# Altium integrated library TI Power Management PCMCIA and USB.IntLib: 328 symbols (part 1 of 14)
Pins are listed as number, name and electrical type; pins without a type are passive.

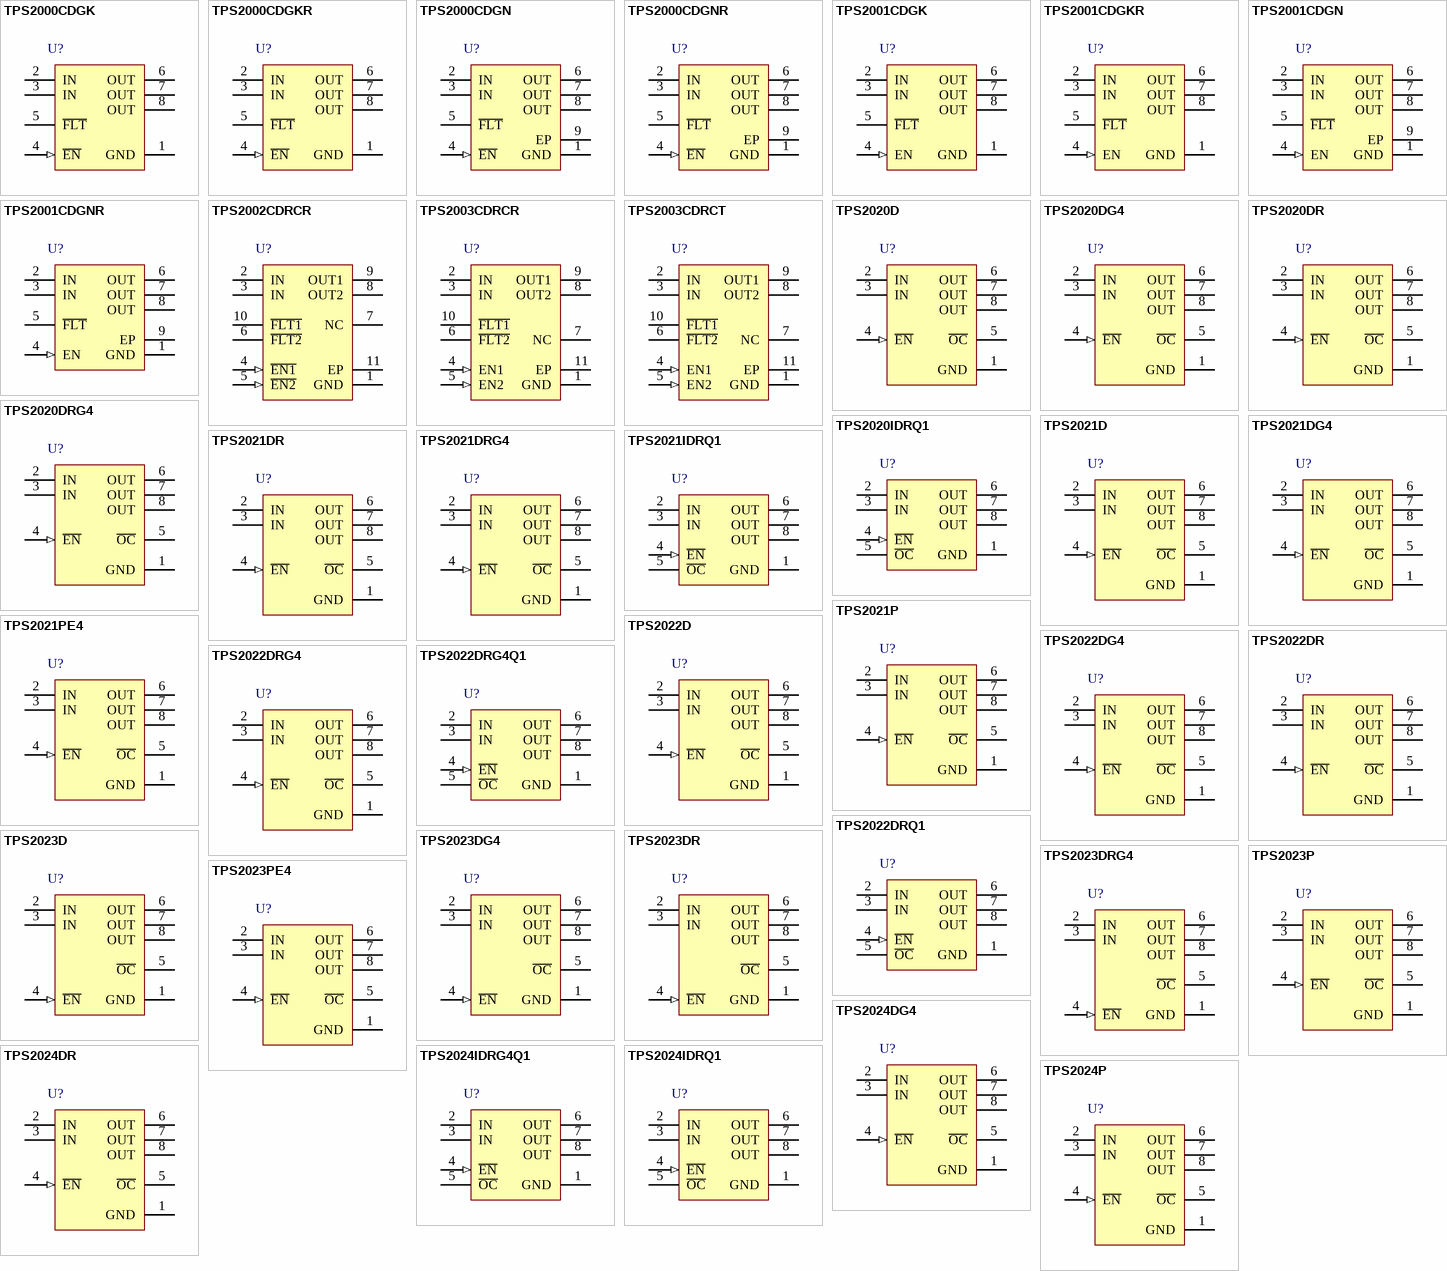
[diagram p0: symbols TPS2000CDGK to TPS2024P]

## TPS2000CDGK
designator U?
Single Channel, Current-Limited USB Power Distribution Switch, 2.9 A Current Limit, -40 to 85 degC, 8-pin VSSOP (DGK), Green (RoHS & no Sb/Br); Manufacturer: Texas Instruments; PartNumber: TPS2000CDGK; Continuous Current(Max)(A): 2; Current Limit(A): 2.9; Discharge Function: TRUE; Enable: Active Low; Number of Switches: 1; Rating: Catalog; rDS(on) per FET(Typ)(mOhms): 70; Vin(Max)(V): 5.5; Vin(Min)(V): 4.5; DatasheetVersion: SLVSAU6E; PackageVersion: revE, May-2006; PackageReference: DGK8; PackageDescription: 8-Pin Thin Small Outline Package 3 x 3 mm Body ,0.65 mm Pitch; Supplier 1: Digi-Key; Supplier Part Number 1: TPS2000CDGK-ND; Supplier 2: Newark; Supplier Part Number 2: 74T5500; Supplier 3: Mouser; Supplier Part Number 3: 595-TPS2000CDGK; Eco-Plan: Green (RoHS & no Sb/Br); UL Listed: TRUE; Mounting Technology: Surface Mount; Code_JEDEC: MO-187-AA; ComponentLink1Description: Datasheet; ComponentLink1URL: http://www.ti.com/general/docs/lit/getliterature.tsp?genericPartNumber=TPS2000C&fileType=pdf
footprint DGK8_N (TSOP, 8-Leads, Body 3x3mm, Pitch 0.65mm, IPC Medium Density)
footprint DGK8_L (TSOP, 8-Leads, Body 3x3mm, Pitch 0.65mm, IPC High Density)
footprint DGK8_M (TSOP, 8-Leads, Body 3x3mm, Pitch 0.65mm, IPC Low Density)
pins: 1 GND (power) "Ground connection", 2 IN (power) "Input voltage and power-switch drain; connect a 0.1 µF or greater ceramic capacitor from IN to GND close to the IC", 3 IN (power) "Input voltage and power-switch drain; connect a 0.1 µF or greater ceramic capacitor from IN to GND close to the IC", 4 ~{EN} (in) "Enable input, logic high turns on power switch", 5 ~{FLT} (hiz) "Active-low open-drain output, asserted during over-current, or over-temperature conditions", 6 OUT (power) "Power-switch output, connect to load", 7 OUT (power) "Power-switch output, connect to load", 8 OUT (power) "Power-switch output, connect to load"

## TPS2000CDGKR
designator U?
Single Channel, Current-Limited USB Power Distribution Switch, 2.9 A Current Limit, -40 to 85 degC, 8-pin VSSOP (DGK), Green (RoHS & no Sb/Br); Manufacturer: Texas Instruments; PartNumber: TPS2000CDGKR; Continuous Current(Max)(A): 2; Current Limit(A): 2.9; Discharge Function: TRUE; Enable: Active Low; Number of Switches: 1; Rating: Catalog; rDS(on) per FET(Typ)(mOhms): 70; Vin(Max)(V): 5.5; Vin(Min)(V): 4.5; DatasheetVersion: SLVSAU6E; PackageVersion: revE, May-2006; PackageReference: DGK8; PackageDescription: 8-Pin Thin Small Outline Package 3 x 3 mm Body ,0.65 mm Pitch; Supplier 1: Digi-Key; Supplier Part Number 1: 296-29958-2-ND; Supplier 2: Digi-Key; Supplier Part Number 2: 296-29958-1-ND; Supplier 3: Digi-Key; Supplier Part Number 3: 296-29958-6-ND; Supplier 4: Newark; Supplier Part Number 4: 74T5501; Supplier 5: Mouser; Supplier Part Number 5: 595-TPS2000CDGKR; Eco-Plan: Green (RoHS & no Sb/Br); UL Listed: TRUE; Mounting Technology: Surface Mount; Code_JEDEC: MO-187-AA; ComponentLink1Description: Datasheet; ComponentLink1URL: http://www.ti.com/general/docs/lit/getliterature.tsp?genericPartNumber=TPS2000C&fileType=pdf
footprint DGK8_N (TSOP, 8-Leads, Body 3x3mm, Pitch 0.65mm, IPC Medium Density)
footprint DGK8_L (TSOP, 8-Leads, Body 3x3mm, Pitch 0.65mm, IPC High Density)
footprint DGK8_M (TSOP, 8-Leads, Body 3x3mm, Pitch 0.65mm, IPC Low Density)
pins: 1 GND (power) "Ground connection", 2 IN (power) "Input voltage and power-switch drain; connect a 0.1 µF or greater ceramic capacitor from IN to GND close to the IC", 3 IN (power) "Input voltage and power-switch drain; connect a 0.1 µF or greater ceramic capacitor from IN to GND close to the IC", 4 ~{EN} (in) "Enable input, logic high turns on power switch", 5 ~{FLT} (hiz) "Active-low open-drain output, asserted during over-current, or over-temperature conditions", 6 OUT (power) "Power-switch output, connect to load", 7 OUT (power) "Power-switch output, connect to load", 8 OUT (power) "Power-switch output, connect to load"

## TPS2000CDGN
designator U?
Single Channel, Current-Limited USB Power Distribution Switch, 2.9 A Current Limit, -40 to 85 degC, 8-pin MSOP-PowerPAD (DGN), Green (RoHS & no Sb/Br); Manufacturer: Texas Instruments; PartNumber: TPS2000CDGN; Continuous Current(Max)(A): 2; Current Limit(A): 2.9; Discharge Function: TRUE; Enable: Active Low; Number of Switches: 1; Rating: Catalog; rDS(on) per FET(Typ)(mOhms): 70; Vin(Max)(V): 5.5; Vin(Min)(V): 4.5; DatasheetVersion: SLVSAU6E; PackageVersion: revF, May-2011; PackageReference: DGN8-1760X1425TP; PackageDescription: 8-Pin PowerPAD Plastic Small Outline Package 3 x 3 mm Body ,0.65 mm Pitch, Exposed Pad; Supplier 1: Digi-Key; Supplier Part Number 1: 296-29507-5-ND; Supplier 2: Farnell; Supplier Part Number 2: 2057436; Supplier 3: Newark; Supplier Part Number 3: 64T4198; Supplier 4: Mouser; Supplier Part Number 4: 595-TPS2000CDGN; Eco-Plan: Green (RoHS & no Sb/Br); UL Listed: TRUE; Mounting Technology: Surface Mount; Code_JEDEC: MO-187-AA-T; ComponentLink1Description: Datasheet; ComponentLink1URL: http://www.ti.com/general/docs/lit/getliterature.tsp?genericPartNumber=TPS2000C&fileType=pdf
footprint DGN8-1760X1425TP_N (TSOP, 8-Leads, Body 3x3mm, Pitch 0.65mm, Thermal Pad 1.89x1.57mm, IPC Medium Density)
footprint DGN8-1760X1425TP_L (TSOP, 8-Leads, Body 3x3mm, Pitch 0.65mm, Thermal Pad 1.89x1.57mm, IPC High Density)
footprint DGN8-1760X1425TP_M (TSOP, 8-Leads, Body 3x3mm, Pitch 0.65mm, Thermal Pad 1.89x1.57mm, IPC Low Density)
pins: 1 GND (power) "Ground connection", 2 IN (power) "Input voltage and power-switch drain; connect a 0.1 µF or greater ceramic capacitor from IN to GND close to the IC", 3 IN (power) "Input voltage and power-switch drain; connect a 0.1 µF or greater ceramic capacitor from IN to GND close to the IC", 4 ~{EN} (in) "Enable input, logic high turns on power switch", 5 ~{FLT} (hiz) "Active-low open-drain output, asserted during over-current, or over-temperature conditions", 6 OUT (power) "Power-switch output, connect to load", 7 OUT (power) "Power-switch output, connect to load", 8 OUT (power) "Power-switch output, connect to load", 9 EP (power) "Internally connected to GND. Connect PAD to GND plane as a heatsink for the best thermal performance.(DGN ONLY) PAD may be left floating if desired. See POWER DISSIPATION AND JUNCTION TEMPERATURE section for guidance."

## TPS2000CDGNR
designator U?
Single Channel, Current-Limited USB Power Distribution Switch, 2.9 A Current Limit, -40 to 85 degC, 8-pin MSOP-PowerPAD (DGN), Green (RoHS & no Sb/Br); Manufacturer: Texas Instruments; PartNumber: TPS2000CDGNR; Continuous Current(Max)(A): 2; Current Limit(A): 2.9; Discharge Function: TRUE; Enable: Active Low; Number of Switches: 1; Rating: Catalog; rDS(on) per FET(Typ)(mOhms): 70; Vin(Max)(V): 5.5; Vin(Min)(V): 4.5; DatasheetVersion: SLVSAU6E; PackageVersion: revF, May-2011; PackageReference: DGN8-1760X1425TP; PackageDescription: 8-Pin PowerPAD Plastic Small Outline Package 3 x 3 mm Body ,0.65 mm Pitch, Exposed Pad; Supplier 1: Digi-Key; Supplier Part Number 1: 296-29353-2-ND; Supplier 2: Digi-Key; Supplier Part Number 2: 296-29353-1-ND; Supplier 3: Digi-Key; Supplier Part Number 3: 296-29353-6-ND; Supplier 4: Mouser; Supplier Part Number 4: 595-TPS2000CDGNR; Eco-Plan: Green (RoHS & no Sb/Br); UL Listed: TRUE; Mounting Technology: Surface Mount; Code_JEDEC: MO-187-AA-T; ComponentLink1Description: Datasheet; ComponentLink1URL: http://www.ti.com/general/docs/lit/getliterature.tsp?genericPartNumber=TPS2000C&fileType=pdf
footprint DGN8-1760X1425TP_N (TSOP, 8-Leads, Body 3x3mm, Pitch 0.65mm, Thermal Pad 1.89x1.57mm, IPC Medium Density)
footprint DGN8-1760X1425TP_L (TSOP, 8-Leads, Body 3x3mm, Pitch 0.65mm, Thermal Pad 1.89x1.57mm, IPC High Density)
footprint DGN8-1760X1425TP_M (TSOP, 8-Leads, Body 3x3mm, Pitch 0.65mm, Thermal Pad 1.89x1.57mm, IPC Low Density)
pins: 1 GND (power) "Ground connection", 2 IN (power) "Input voltage and power-switch drain; connect a 0.1 µF or greater ceramic capacitor from IN to GND close to the IC", 3 IN (power) "Input voltage and power-switch drain; connect a 0.1 µF or greater ceramic capacitor from IN to GND close to the IC", 4 ~{EN} (in) "Enable input, logic high turns on power switch", 5 ~{FLT} (hiz) "Active-low open-drain output, asserted during over-current, or over-temperature conditions", 6 OUT (power) "Power-switch output, connect to load", 7 OUT (power) "Power-switch output, connect to load", 8 OUT (power) "Power-switch output, connect to load", 9 EP (power) "Internally connected to GND. Connect PAD to GND plane as a heatsink for the best thermal performance.(DGN ONLY) PAD may be left floating if desired. See POWER DISSIPATION AND JUNCTION TEMPERATURE section for guidance."

## TPS2001CDGK
designator U?
Single Channel, Current-Limited USB Power Distribution Switch, 2.9 A Current Limit, -40 to 85 degC, 8-pin VSSOP (DGK), Green (RoHS & no Sb/Br); Manufacturer: Texas Instruments; PartNumber: TPS2001CDGK; Continuous Current(Max)(A): 2; Current Limit(A): 2.9; Discharge Function: TRUE; Enable: Active High; Number of Switches: 1; Rating: Catalog; rDS(on) per FET(Typ)(mOhms): 70; Vin(Max)(V): 5.5; Vin(Min)(V): 4.5; DatasheetVersion: SLVSAU6E; PackageVersion: revE, May-2006; PackageReference: DGK8; PackageDescription: 8-Pin Thin Small Outline Package 3 x 3 mm Body ,0.65 mm Pitch; Supplier 1: Digi-Key; Supplier Part Number 1: TPS2001CDGK-ND; Supplier 2: Newark; Supplier Part Number 2: 74T5502; Supplier 3: Mouser; Supplier Part Number 3: 595-TPS2001CDGK; Eco-Plan: Green (RoHS & no Sb/Br); UL Listed: TRUE; Mounting Technology: Surface Mount; Code_JEDEC: MO-187-AA; ComponentLink1Description: Datasheet; ComponentLink1URL: http://www.ti.com/general/docs/lit/getliterature.tsp?genericPartNumber=TPS2001C&fileType=pdf
footprint DGK8_N (TSOP, 8-Leads, Body 3x3mm, Pitch 0.65mm, IPC Medium Density)
footprint DGK8_L (TSOP, 8-Leads, Body 3x3mm, Pitch 0.65mm, IPC High Density)
footprint DGK8_M (TSOP, 8-Leads, Body 3x3mm, Pitch 0.65mm, IPC Low Density)
pins: 1 GND (power) "Ground connection", 2 IN (power) "Input voltage and power-switch drain; connect a 0.1 µF or greater ceramic capacitor from IN to GND close to the IC", 3 IN (power) "Input voltage and power-switch drain; connect a 0.1 µF or greater ceramic capacitor from IN to GND close to the IC", 4 EN (in) "Enable input, logic high turns on power switch", 5 ~{FLT} (hiz) "Active-low open-drain output, asserted during over-current, or over-temperature conditions", 6 OUT (power) "Power-switch output, connect to load", 7 OUT (power) "Power-switch output, connect to load", 8 OUT (power) "Power-switch output, connect to load"

## TPS2001CDGKR
designator U?
Single Channel, Current-Limited USB Power Distribution Switch, 2.9 A Current Limit, -40 to 85 degC, 8-pin VSSOP (DGK), Green (RoHS & no Sb/Br); Manufacturer: Texas Instruments; PartNumber: TPS2001CDGKR; Continuous Current(Max)(A): 2; Current Limit(A): 2.9; Discharge Function: TRUE; Enable: Active High; Number of Switches: 1; Rating: Catalog; rDS(on) per FET(Typ)(mOhms): 70; Vin(Max)(V): 5.5; Vin(Min)(V): 4.5; DatasheetVersion: SLVSAU6E; PackageVersion: revE, May-2006; PackageReference: DGK8; PackageDescription: 8-Pin Thin Small Outline Package 3 x 3 mm Body ,0.65 mm Pitch; Supplier 1: Digi-Key; Supplier Part Number 1: 296-29959-2-ND; Supplier 2: Digi-Key; Supplier Part Number 2: 296-29959-1-ND; Supplier 3: Digi-Key; Supplier Part Number 3: 296-29959-6-ND; Supplier 4: Newark; Supplier Part Number 4: 74T5503; Supplier 5: Mouser; Supplier Part Number 5: 595-TPS2001CDGKR; Eco-Plan: Green (RoHS & no Sb/Br); UL Listed: TRUE; Mounting Technology: Surface Mount; Code_JEDEC: MO-187-AA; ComponentLink1Description: Datasheet; ComponentLink1URL: http://www.ti.com/general/docs/lit/getliterature.tsp?genericPartNumber=TPS2001C&fileType=pdf
footprint DGK8_N (TSOP, 8-Leads, Body 3x3mm, Pitch 0.65mm, IPC Medium Density)
footprint DGK8_L (TSOP, 8-Leads, Body 3x3mm, Pitch 0.65mm, IPC High Density)
footprint DGK8_M (TSOP, 8-Leads, Body 3x3mm, Pitch 0.65mm, IPC Low Density)
pins: 1 GND (power) "Ground connection", 2 IN (power) "Input voltage and power-switch drain; connect a 0.1 µF or greater ceramic capacitor from IN to GND close to the IC", 3 IN (power) "Input voltage and power-switch drain; connect a 0.1 µF or greater ceramic capacitor from IN to GND close to the IC", 4 EN (in) "Enable input, logic high turns on power switch", 5 ~{FLT} (hiz) "Active-low open-drain output, asserted during over-current, or over-temperature conditions", 6 OUT (power) "Power-switch output, connect to load", 7 OUT (power) "Power-switch output, connect to load", 8 OUT (power) "Power-switch output, connect to load"

## TPS2001CDGN
designator U?
Single Channel, Current-Limited USB Power Distribution Switch, 2.9 A Current Limit, -40 to 85 degC, 8-pin MSOP-PowerPAD (DGN), Green (RoHS & no Sb/Br); Manufacturer: Texas Instruments; PartNumber: TPS2001CDGN; Continuous Current(Max)(A): 2; Current Limit(A): 2.9; Discharge Function: TRUE; Enable: Active High; Number of Switches: 1; Rating: Catalog; rDS(on) per FET(Typ)(mOhms): 70; Vin(Max)(V): 5.5; Vin(Min)(V): 4.5; DatasheetVersion: SLVSAU6E; PackageVersion: revF, May-2011; PackageReference: DGN8-1760X1425TP; PackageDescription: 8-Pin PowerPAD Plastic Small Outline Package 3 x 3 mm Body ,0.65 mm Pitch, Exposed Pad; Supplier 1: Digi-Key; Supplier Part Number 1: 296-29336-5-ND; Supplier 2: Farnell; Supplier Part Number 2: 2057437; Supplier 3: Newark; Supplier Part Number 3: 64T4199; Supplier 4: Mouser; Supplier Part Number 4: 595-TPS2001CDGN; Eco-Plan: Green (RoHS & no Sb/Br); UL Listed: TRUE; Mounting Technology: Surface Mount; Code_JEDEC: MO-187-AA-T; ComponentLink1Description: Datasheet; ComponentLink1URL: http://www.ti.com/general/docs/lit/getliterature.tsp?genericPartNumber=TPS2001C&fileType=pdf
footprint DGN8-1760X1425TP_N (TSOP, 8-Leads, Body 3x3mm, Pitch 0.65mm, Thermal Pad 1.89x1.57mm, IPC Medium Density)
footprint DGN8-1760X1425TP_L (TSOP, 8-Leads, Body 3x3mm, Pitch 0.65mm, Thermal Pad 1.89x1.57mm, IPC High Density)
footprint DGN8-1760X1425TP_M (TSOP, 8-Leads, Body 3x3mm, Pitch 0.65mm, Thermal Pad 1.89x1.57mm, IPC Low Density)
pins: 1 GND (power) "Ground connection", 2 IN (power) "Input voltage and power-switch drain; connect a 0.1 µF or greater ceramic capacitor from IN to GND close to the IC", 3 IN (power) "Input voltage and power-switch drain; connect a 0.1 µF or greater ceramic capacitor from IN to GND close to the IC", 4 EN (in) "Enable input, logic high turns on power switch", 5 ~{FLT} (hiz) "Active-low open-drain output, asserted during over-current, or over-temperature conditions", 6 OUT (power) "Power-switch output, connect to load", 7 OUT (power) "Power-switch output, connect to load", 8 OUT (power) "Power-switch output, connect to load", 9 EP (power) "Internally connected to GND. Connect PAD to GND plane as a heatsink for the best thermal performance.(DGN ONLY) PAD may be left floating if desired. See POWER DISSIPATION AND JUNCTION TEMPERATURE section for guidance."

## TPS2001CDGNR
designator U?
Single Channel, Current-Limited USB Power Distribution Switch, 2.9 A Current Limit, -40 to 85 degC, 8-pin MSOP-PowerPAD (DGN), Green (RoHS & no Sb/Br); Manufacturer: Texas Instruments; PartNumber: TPS2001CDGNR; Continuous Current(Max)(A): 2; Current Limit(A): 2.9; Discharge Function: TRUE; Enable: Active High; Number of Switches: 1; Rating: Catalog; rDS(on) per FET(Typ)(mOhms): 70; Vin(Max)(V): 5.5; Vin(Min)(V): 4.5; DatasheetVersion: SLVSAU6E; PackageVersion: revF, May-2011; PackageReference: DGN8-1760X1425TP; PackageDescription: 8-Pin PowerPAD Plastic Small Outline Package 3 x 3 mm Body ,0.65 mm Pitch, Exposed Pad; Supplier 1: Digi-Key; Supplier Part Number 1: TPS2001CDGNR-ND; Supplier 2: Newark; Supplier Part Number 2: 61T6037; Supplier 3: Mouser; Supplier Part Number 3: 595-TPS2001CDGNR; Eco-Plan: Green (RoHS & no Sb/Br); UL Listed: TRUE; Mounting Technology: Surface Mount; Code_JEDEC: MO-187-AA-T; ComponentLink1Description: Datasheet; ComponentLink1URL: http://www.ti.com/general/docs/lit/getliterature.tsp?genericPartNumber=TPS2001C&fileType=pdf
footprint DGN8-1760X1425TP_N (TSOP, 8-Leads, Body 3x3mm, Pitch 0.65mm, Thermal Pad 1.89x1.57mm, IPC Medium Density)
footprint DGN8-1760X1425TP_L (TSOP, 8-Leads, Body 3x3mm, Pitch 0.65mm, Thermal Pad 1.89x1.57mm, IPC High Density)
footprint DGN8-1760X1425TP_M (TSOP, 8-Leads, Body 3x3mm, Pitch 0.65mm, Thermal Pad 1.89x1.57mm, IPC Low Density)
pins: 1 GND (power) "Ground connection", 2 IN (power) "Input voltage and power-switch drain; connect a 0.1 µF or greater ceramic capacitor from IN to GND close to the IC", 3 IN (power) "Input voltage and power-switch drain; connect a 0.1 µF or greater ceramic capacitor from IN to GND close to the IC", 4 EN (in) "Enable input, logic high turns on power switch", 5 ~{FLT} (hiz) "Active-low open-drain output, asserted during over-current, or over-temperature conditions", 6 OUT (power) "Power-switch output, connect to load", 7 OUT (power) "Power-switch output, connect to load", 8 OUT (power) "Power-switch output, connect to load", 9 EP (power) "Internally connected to GND. Connect PAD to GND plane as a heatsink for the best thermal performance.(DGN ONLY) PAD may be left floating if desired. See POWER DISSIPATION AND JUNCTION TEMPERATURE section for guidance."

## TPS2002CDRCR
designator U?
Dual-Channel, Current-Limited, Power-Distribution Switch, 2.22 to 3.70 A Current Limit, -40 to 85 degC, 10-pin SON (DRC), Green (RoHS & no Sb/Br); Manufacturer: Texas Instruments; PartNumber: TPS2002CDRCR; Continuous Current(Max)(A): 2; Current Limit Accuracy @ 1A: +/- 25%; Current Limit Topology: Constant-Current; Enable: Active Low; Rating: Catalog; rDS(on) per FET(Typ)(mOhms): 70; Vin(Max)(V): 5.5; Vin(Min)(V): 4.5; DatasheetVersion: SLVSAX6E; PackageVersion: revL, Sep-2011; PackageReference: DRC10-2400X1650TP; PackageDescription: 10-Pin Plastic Small Outline No-Lead, 3 x 3 x 1 mm Body, 0.5 mm Pitch, Exposed Pad; Supplier 1: Mouser; Supplier Part Number 1: N/A; Current Limit(A): 2.22 to 3.70; Eco-Plan: Green (RoHS & no Sb/Br); Number of Switches: 2; Mounting Technology: Surface Mount; ComponentLink1Description: Datasheet; ComponentLink1URL: http://www.ti.com/general/docs/lit/getliterature.tsp?genericPartNumber=TPS2002C&fileType=pdf
footprint DRC10-2400X1650TP (SON, 10-Leads, Body 3x3mm, Pitch 0.5mm, Thermal Pad 2.4x1.65mm, TI Recommended)
pins: 1 GND (power) "Ground connection", 2 IN (power) "Input voltage and power-switch drain; connect a 0.1 uF or greater ceramic capacitor from IN to GND close to the IC", 3 IN (power) "Input voltage and power-switch drain; connect a 0.1 uF or greater ceramic capacitor from IN to GND close to the IC", 4 ~{EN1} (in) "Enable input channel 1, logic low turns on power switch", 5 ~{EN2} (in) "Enable input channel 2, logic low turns on power switch", 6 ~{FLT2} (hiz) "Active-low open-drain output, asserted during overcurrent, or overtemperature conditions on channel 2", 7 NC "No connect - leave floating.", 8 OUT2 (power) "Power-switch output channel 2, connect to load", 9 OUT1 (power) "Power-switch output channel 1, connect to load", 10 ~{FLT1} (hiz) "Active-low open-drain output, asserted during overcurrent, or overtemperature conditions on channel 1", 11 EP (power) "Internally connected to GND; used to heat-sink the part to the circuit board traces. Connect PAD to GND plane as a heatsink."

## TPS2003CDRCR
designator U?
Dual-Channel, Current-Limited, Power-Distribution Switch, 2.22 to 3.70 A Current Limit, -40 to 85 degC, 10-pin SON (DRC), Green (RoHS & no Sb/Br); Manufacturer: Texas Instruments; PartNumber: TPS2003CDRCR; Continuous Current(Max)(A): 2; Current Limit Accuracy @ 1A: +/- 25%; Current Limit Topology: Constant-Current; Enable: Active High; Rating: Catalog; rDS(on) per FET(Typ)(mOhms): 70; Vin(Max)(V): 5.5; Vin(Min)(V): 4.5; DatasheetVersion: SLVSAX6E; PackageVersion: revL, Sep-2011; PackageReference: DRC10-2400X1650TP; PackageDescription: 10-Pin Plastic Small Outline No-Lead, 3 x 3 x 1 mm Body, 0.5 mm Pitch, Exposed Pad; Supplier 1: Mouser; Supplier Part Number 1: N/A; Current Limit(A): 2.22 to 3.70; Eco-Plan: Green (RoHS & no Sb/Br); Number of Switches: 2; Mounting Technology: Surface Mount; ComponentLink1Description: Datasheet; ComponentLink1URL: http://www.ti.com/general/docs/lit/getliterature.tsp?genericPartNumber=TPS2003C&fileType=pdf
footprint DRC10-2400X1650TP (SON, 10-Leads, Body 3x3mm, Pitch 0.5mm, Thermal Pad 2.4x1.65mm, TI Recommended)
pins: 1 GND (power) "Ground connection", 2 IN (power) "Input voltage and power-switch drain; connect a 0.1 uF or greater ceramic capacitor from IN to GND close to the IC", 3 IN (power) "Input voltage and power-switch drain; connect a 0.1 uF or greater ceramic capacitor from IN to GND close to the IC", 4 EN1 (in) "Enable input channel 1, logic high turns on power switch", 5 EN2 (in) "Enable input channel 2, logic high turns on power switch", 6 ~{FLT2} (hiz) "Active-low open-drain output, asserted during overcurrent, or overtemperature conditions on channel 2", 7 NC "No connect - leave floating.", 8 OUT2 (power) "Power-switch output channel 2, connect to load", 9 OUT1 (power) "Power-switch output channel 1, connect to load", 10 ~{FLT1} (hiz) "Active-low open-drain output, asserted during overcurrent, or overtemperature conditions on channel 1", 11 EP (power) "Internally connected to GND; used to heat-sink the part to the circuit board traces. Connect PAD to GND plane as a heatsink."

## TPS2003CDRCT
designator U?
Dual-Channel, Current-Limited, Power-Distribution Switch, 2.22 to 3.70 A Current Limit, -40 to 85 degC, 10-pin SON (DRC), Green (RoHS & no Sb/Br); Manufacturer: Texas Instruments; PartNumber: TPS2003CDRCT; Continuous Current(Max)(A): 2; Current Limit Accuracy @ 1A: +/- 25%; Current Limit Topology: Constant-Current; Enable: Active High; Rating: Catalog; rDS(on) per FET(Typ)(mOhms): 70; Vin(Max)(V): 5.5; Vin(Min)(V): 4.5; DatasheetVersion: SLVSAX6E; PackageVersion: revL, Sep-2011; PackageReference: DRC10-2400X1650TP; PackageDescription: 10-Pin Plastic Small Outline No-Lead, 3 x 3 x 1 mm Body, 0.5 mm Pitch, Exposed Pad; Supplier 1: Mouser; Supplier Part Number 1: N/A; Current Limit(A): 2.22 to 3.70; Eco-Plan: Green (RoHS & no Sb/Br); Number of Switches: 2; Mounting Technology: Surface Mount; ComponentLink1Description: Datasheet; ComponentLink1URL: http://www.ti.com/general/docs/lit/getliterature.tsp?genericPartNumber=TPS2003C&fileType=pdf
footprint DRC10-2400X1650TP (SON, 10-Leads, Body 3x3mm, Pitch 0.5mm, Thermal Pad 2.4x1.65mm, TI Recommended)
pins: 1 GND (power) "Ground connection", 2 IN (power) "Input voltage and power-switch drain; connect a 0.1 uF or greater ceramic capacitor from IN to GND close to the IC", 3 IN (power) "Input voltage and power-switch drain; connect a 0.1 uF or greater ceramic capacitor from IN to GND close to the IC", 4 EN1 (in) "Enable input channel 1, logic high turns on power switch", 5 EN2 (in) "Enable input channel 2, logic high turns on power switch", 6 ~{FLT2} (hiz) "Active-low open-drain output, asserted during overcurrent, or overtemperature conditions on channel 2", 7 NC "No connect - leave floating.", 8 OUT2 (power) "Power-switch output channel 2, connect to load", 9 OUT1 (power) "Power-switch output channel 1, connect to load", 10 ~{FLT1} (hiz) "Active-low open-drain output, asserted during overcurrent, or overtemperature conditions on channel 1", 11 EP (power) "Internally connected to GND; used to heat-sink the part to the circuit board traces. Connect PAD to GND plane as a heatsink."

## TPS2020D
designator U?
0.22 A, 2.7 to 5.5 V Single Power Distribution Switch IC Hi-Side MOSFET, Fault Report, 33 mOhms rDS(ON), -40 to 85 degC, 8-pin SOIC (D), Green (RoHS & no Sb/Br); Manufacturer: Texas Instruments; PartNumber: TPS2020D; Continuous Current(Max)(A): 0.2; Current Limit(A): 0.3; Enable: Active Low; Number of Switches: 1; Rating: Catalog; rDS(on) per FET(Typ)(mOhms): 33; Vin(Max)(V): 5.5; Vin(Min)(V): 2.7; DatasheetVersion: SLVS175C; PackageVersion: revM, Jun-2011; PackageReference: D8; PackageDescription: 8-Pin Plastic Small Outline Integrated Circuit, 4.9 x 3.9 mm, Pitch 1.27 mm Pitch; Supplier 1: Digi-Key; Supplier Part Number 1: 296-2560-5-ND; Supplier 2: Farnell; Supplier Part Number 2: 8456690; Supplier 3: Newark; Supplier Part Number 3: 35K1303; Supplier 4: Mouser; Supplier Part Number 4: 595-TPS2020D; Eco-Plan: Green (RoHS & no Sb/Br); Mounting Technology: Surface Mount; Code_JEDEC: MS-012AA; ComponentLink1Description: Datasheet; ComponentLink1URL: http://www.ti.com/general/docs/lit/getliterature.tsp?genericPartNumber=TPS2020&fileType=pdf
footprint D8_N (SOIC, 8-Leads, Body 4.9x3.9mm, Pitch 1.27mm, IPC Medium Density)
footprint D8_L (SOIC, 8-Leads, Body 4.9x3.9mm, Pitch 1.27mm, IPC High Density)
footprint D8_M (SOIC, 8-Leads, Body 4.9x3.9mm, Pitch 1.27mm, IPC Low Density)
pins: 1 GND (power) "Ground", 2 IN (power) "Input voltage", 3 IN (power) "Input voltage", 4 ~{EN} (in) "Enable input. Logic-low turns on power switch.", 5 ~{OC} (oc) "Overcurrent. Logic output, active-low", 6 OUT (power) "Power-switch output", 7 OUT (power) "Power-switch output", 8 OUT (power) "Power-switch output"

## TPS2020DG4
designator U?
0.22 A, 2.7 to 5.5 V Single Power Distribution Switch IC Hi-Side MOSFET, Fault Report, 33 mOhms rDS(ON), -40 to 85 degC, 8-pin SOIC (D), Green (RoHS & no Sb/Br); Manufacturer: Texas Instruments; PartNumber: TPS2020DG4; Continuous Current(Max)(A): 0.2; Current Limit(A): 0.3; Enable: Active Low; Number of Switches: 1; Rating: Catalog; rDS(on) per FET(Typ)(mOhms): 33; Vin(Max)(V): 5.5; Vin(Min)(V): 2.7; DatasheetVersion: SLVS175C; PackageVersion: revM, Jun-2011; PackageReference: D8; PackageDescription: 8-Pin Plastic Small Outline Integrated Circuit, 4.9 x 3.9 mm, Pitch 1.27 mm Pitch; Supplier 1: Digi-Key; Supplier Part Number 1: TPS2020DG4-ND; Supplier 2: Newark; Supplier Part Number 2: 70K5693; Supplier 3: Mouser; Supplier Part Number 3: 595-TPS2020DG4; Eco-Plan: Green (RoHS & no Sb/Br); Mounting Technology: Surface Mount; Code_JEDEC: MS-012AA; ComponentLink1Description: Datasheet; ComponentLink1URL: http://www.ti.com/general/docs/lit/getliterature.tsp?genericPartNumber=TPS2020&fileType=pdf
footprint D8_N (SOIC, 8-Leads, Body 4.9x3.9mm, Pitch 1.27mm, IPC Medium Density)
footprint D8_L (SOIC, 8-Leads, Body 4.9x3.9mm, Pitch 1.27mm, IPC High Density)
footprint D8_M (SOIC, 8-Leads, Body 4.9x3.9mm, Pitch 1.27mm, IPC Low Density)
pins: 1 GND (power) "Ground", 2 IN (power) "Input voltage", 3 IN (power) "Input voltage", 4 ~{EN} (in) "Enable input. Logic-low turns on power switch.", 5 ~{OC} (oc) "Overcurrent. Logic output, active-low", 6 OUT (power) "Power-switch output", 7 OUT (power) "Power-switch output", 8 OUT (power) "Power-switch output"

## TPS2020DR
designator U?
0.22 A, 2.7 to 5.5 V Single Power Distribution Switch IC Hi-Side MOSFET, Fault Report, 33 mOhms rDS(On), -40 to 85 degC, 8-pin SOIC (D), Green (RoHS & no Sb/Br); Manufacturer: Texas Instruments; PartNumber: TPS2020DR; Continuous Current(Max)(A): 0.2; Current Limit(A): 0.3; Enable: Active Low; Number of Switches: 1; Rating: Catalog; rDS(on) per FET(Typ)(mOhms): 33; Vin(Max)(V): 5.5; Vin(Min)(V): 2.7; DatasheetVersion: SLVS175C; PackageVersion: revM, Jun-2011; PackageReference: D8; PackageDescription: 8-Pin Plastic Small Outline Integrated Circuit, 4.9 x 3.9 mm, Pitch 1.27 mm Pitch; Supplier 1: Digi-Key; Supplier Part Number 1: TPS2020DR-ND; Supplier 2: Newark; Supplier Part Number 2: 76C9959; Supplier 3: Mouser; Supplier Part Number 3: 595-TPS2020DR; Eco-Plan: Green (RoHS & no Sb/Br); Mounting Technology: Surface Mount; Code_JEDEC: MS-012AA; ComponentLink1Description: Datasheet; ComponentLink1URL: http://www.ti.com/general/docs/lit/getliterature.tsp?genericPartNumber=TPS2020&fileType=pdf
footprint D8_N (SOIC, 8-Leads, Body 4.9x3.9mm, Pitch 1.27mm, IPC Medium Density)
footprint D8_L (SOIC, 8-Leads, Body 4.9x3.9mm, Pitch 1.27mm, IPC High Density)
footprint D8_M (SOIC, 8-Leads, Body 4.9x3.9mm, Pitch 1.27mm, IPC Low Density)
pins: 1 GND (power) "Ground", 2 IN (power) "Input voltage", 3 IN (power) "Input voltage", 4 ~{EN} (in) "Enable input. Logic-low turns on power switch.", 5 ~{OC} (oc) "Overcurrent. Logic output, active-low", 6 OUT (power) "Power-switch output", 7 OUT (power) "Power-switch output", 8 OUT (power) "Power-switch output"

## TPS2020DRG4
designator U?
0.22 A, 2.7 to 5.5 V Single Power Distribution Switch IC Hi-Side MOSFET, Fault Report, 33 mOhms rDS(On), -40 to 85 degC, 8-pin SOIC (D), Green (RoHS & no Sb/Br); Manufacturer: Texas Instruments; PartNumber: TPS2020DRG4; Continuous Current(Max)(A): 0.2; Current Limit(A): 0.3; Enable: Active Low; Number of Switches: 1; Rating: Catalog; rDS(on) per FET(Typ)(mOhms): 33; Vin(Max)(V): 5.5; Vin(Min)(V): 2.7; DatasheetVersion: SLVS175C; PackageVersion: revM, Jun-2011; PackageReference: D8; PackageDescription: 8-Pin Plastic Small Outline Integrated Circuit, 4.9 x 3.9 mm, Pitch 1.27 mm Pitch; Supplier 1: Digi-Key; Supplier Part Number 1: TPS2020DRG4-ND; Supplier 2: Newark; Supplier Part Number 2: 31K7806; Supplier 3: Mouser; Supplier Part Number 3: 595-TPS2020DRG4; Eco-Plan: Green (RoHS & no Sb/Br); Mounting Technology: Surface Mount; Code_JEDEC: MS-012AA; ComponentLink1Description: Datasheet; ComponentLink1URL: http://www.ti.com/general/docs/lit/getliterature.tsp?genericPartNumber=TPS2020&fileType=pdf
footprint D8_N (SOIC, 8-Leads, Body 4.9x3.9mm, Pitch 1.27mm, IPC Medium Density)
footprint D8_L (SOIC, 8-Leads, Body 4.9x3.9mm, Pitch 1.27mm, IPC High Density)
footprint D8_M (SOIC, 8-Leads, Body 4.9x3.9mm, Pitch 1.27mm, IPC Low Density)
pins: 1 GND (power) "Ground", 2 IN (power) "Input voltage", 3 IN (power) "Input voltage", 4 ~{EN} (in) "Enable input. Logic-low turns on power switch.", 5 ~{OC} (oc) "Overcurrent. Logic output, active-low", 6 OUT (power) "Power-switch output", 7 OUT (power) "Power-switch output", 8 OUT (power) "Power-switch output"

## TPS2020IDRQ1
designator U?
Automotive Catalog 0.22A, 2.7 to 5.5 V Single Power Distribution Switch IC Hi-Side MOSFET, Fault Report,, A Current Limit, -40 to 85 degC, 8-pin SOIC (D), Green (RoHS & no Sb/Br); Manufacturer: Texas Instruments; PartNumber: TPS2020IDRQ1; Continuous Current(Max)(A): 0.2; Current Limit Accuracy @ 1A: 0.3; Enable: Active Low; Number of Switches: 1; Vin(Max)(V): 5.5; Vin(Min)(V): 2.7; DatasheetVersion: SGLS260G; PackageVersion: revM, Jun-2011; PackageReference: D8; PackageDescription: 8-Pin Plastic Small Outline Integrated Circuit, 4.9 x 3.9 mm, Pitch 1.27 mm Pitch; Supplier 1: Digi-Key; Supplier Part Number 1: TPS2020IDRQ1-ND; Supplier 2: Newark; Supplier Part Number 2: 01T0801; Supplier 3: Mouser; Supplier Part Number 3: 595-TPS2020IDRQ1; Eco-Plan: Green (RoHS & no Sb/Br); Rating: Automotive; Mounting Technology: Surface Mount; Code_JEDEC: MS-012AA; ComponentLink1Description: Datasheet; ComponentLink1URL: http://www.ti.com/general/docs/lit/getliterature.tsp?genericPartNumber=TPS2020-Q1&fileType=pdf
footprint D8_N (SOIC, 8-Leads, Body 4.9x3.9mm, Pitch 1.27mm, IPC Medium Density)
footprint D8_L (SOIC, 8-Leads, Body 4.9x3.9mm, Pitch 1.27mm, IPC High Density)
footprint D8_M (SOIC, 8-Leads, Body 4.9x3.9mm, Pitch 1.27mm, IPC Low Density)
pins: 1 GND (power) "Ground", 2 IN (power) "Input voltage", 3 IN (power) "Input voltage", 4 ~{EN} (in) "Enable input. Logic-low turns on power switch", 5 ~{OC} (oc) "Overcurrent. Logic output, active-low", 6 OUT (power) "Power-switch output", 7 OUT (power) "Power-switch output", 8 OUT (power) "Power-switch output"

## TPS2021D
designator U?
0.66 A, 2.7 to 5.5 V Single Power Distribution Switch IC Hi-Side MOSFET, Fault Report, 33 mOhms rDS(On), -40 to 85 degC, 8-pin SOIC (D), Green (RoHS & no Sb/Br); Manufacturer: Texas Instruments; PartNumber: TPS2021D; Continuous Current(Max)(A): 0.6; Current Limit(A): 0.9; Enable: Active Low; Number of Switches: 1; Rating: Catalog; rDS(on) per FET(Typ)(mOhms): 33; Vin(Max)(V): 5.5; Vin(Min)(V): 2.7; DatasheetVersion: SLVS175C; PackageVersion: revM, Jun-2011; PackageReference: D8; PackageDescription: 8-Pin Plastic Small Outline Integrated Circuit, 4.9 x 3.9 mm, Pitch 1.27 mm Pitch; Supplier 1: Digi-Key; Supplier Part Number 1: 296-2561-5-ND; Supplier 2: Newark; Supplier Part Number 2: 96B3628; Supplier 3: Mouser; Supplier Part Number 3: 595-TPS2021D; Eco-Plan: Green (RoHS & no Sb/Br); Mounting Technology: Surface Mount; Code_JEDEC: MS-012AA; ComponentLink1Description: Datasheet; ComponentLink1URL: http://www.ti.com/general/docs/lit/getliterature.tsp?genericPartNumber=TPS2021&fileType=pdf
footprint D8_N (SOIC, 8-Leads, Body 4.9x3.9mm, Pitch 1.27mm, IPC Medium Density)
footprint D8_L (SOIC, 8-Leads, Body 4.9x3.9mm, Pitch 1.27mm, IPC High Density)
footprint D8_M (SOIC, 8-Leads, Body 4.9x3.9mm, Pitch 1.27mm, IPC Low Density)
pins: 1 GND (power) "Ground", 2 IN (power) "Input voltage", 3 IN (power) "Input voltage", 4 ~{EN} (in) "Enable input. Logic-low turns on power switch.", 5 ~{OC} (oc) "Overcurrent. Logic output, active low", 6 OUT (power) "Power-switch output", 7 OUT (power) "Power-switch output", 8 OUT (power) "Power-switch output"

## TPS2021DG4
designator U?
0.66 A, 2.7 to 5.5 V Single Power Distribution Switch IC Hi-Side MOSFET, Fault Report, 33 mOhms rDS(On), -40 to 85 degC, 8-pin SOIC (D), Green (RoHS & no Sb/Br); Manufacturer: Texas Instruments; PartNumber: TPS2021DG4; Continuous Current(Max)(A): 0.6; Current Limit(A): 0.9; Enable: Active Low; Number of Switches: 1; Rating: Catalog; rDS(on) per FET(Typ)(mOhms): 33; Vin(Max)(V): 5.5; Vin(Min)(V): 2.7; DatasheetVersion: SLVS175C; PackageVersion: revM, Jun-2011; PackageReference: D8; PackageDescription: 8-Pin Plastic Small Outline Integrated Circuit, 4.9 x 3.9 mm, Pitch 1.27 mm Pitch; Supplier 1: Digi-Key; Supplier Part Number 1: TPS2021DG4-ND; Supplier 2: Newark; Supplier Part Number 2: 54K1528; Supplier 3: Mouser; Supplier Part Number 3: 595-TPS2021DG4; Eco-Plan: Green (RoHS & no Sb/Br); Mounting Technology: Surface Mount; Code_JEDEC: MS-012AA; ComponentLink1Description: Datasheet; ComponentLink1URL: http://www.ti.com/general/docs/lit/getliterature.tsp?genericPartNumber=TPS2021&fileType=pdf
footprint D8_N (SOIC, 8-Leads, Body 4.9x3.9mm, Pitch 1.27mm, IPC Medium Density)
footprint D8_L (SOIC, 8-Leads, Body 4.9x3.9mm, Pitch 1.27mm, IPC High Density)
footprint D8_M (SOIC, 8-Leads, Body 4.9x3.9mm, Pitch 1.27mm, IPC Low Density)
pins: 1 GND (power) "Ground", 2 IN (power) "Input voltage", 3 IN (power) "Input voltage", 4 ~{EN} (in) "Enable input. Logic-low turns on power switch.", 5 ~{OC} (oc) "Overcurrent. Logic output, active low", 6 OUT (power) "Power-switch output", 7 OUT (power) "Power-switch output", 8 OUT (power) "Power-switch output"

## TPS2021DR
designator U?
0.66 A, 2.7 to 5.5 V Single Power Distribution Switch IC Hi-Side MOSFET, Fault Report, 33 mOhms rDS(on), -40 to 85 degC, 8-pin SOIC (D), Green (RoHS & no Sb/Br); Manufacturer: Texas Instruments; PartNumber: TPS2021DR; Continuous Current(Max)(A): 0.6; Current Limit(A): 0.9; Enable: Active Low; Number of Switches: 1; Rating: Catalog; rDS(on) per FET(Typ)(mOhms): 33; Vin(Max)(V): 5.5; Vin(Min)(V): 2.7; DatasheetVersion: SLVS175C; PackageVersion: revM, Jun-2011; PackageReference: D8; PackageDescription: 8-Pin Plastic Small Outline Integrated Circuit, 4.9 x 3.9 mm, Pitch 1.27 mm Pitch; Supplier 1: Digi-Key; Supplier Part Number 1: 296-26903-2-ND; Supplier 2: Digi-Key; Supplier Part Number 2: 296-26903-1-ND; Supplier 3: Digi-Key; Supplier Part Number 3: 296-26903-6-ND; Supplier 4: Newark; Supplier Part Number 4: 76C9960; Supplier 5: Mouser; Supplier Part Number 5: 595-TPS2021DR; Eco-Plan: Green (RoHS & no Sb/Br); Mounting Technology: Surface Mount; Code_JEDEC: MS-012AA; ComponentLink1Description: Datasheet; ComponentLink1URL: http://www.ti.com/general/docs/lit/getliterature.tsp?genericPartNumber=TPS2021&fileType=pdf
footprint D8_N (SOIC, 8-Leads, Body 4.9x3.9mm, Pitch 1.27mm, IPC Medium Density)
footprint D8_L (SOIC, 8-Leads, Body 4.9x3.9mm, Pitch 1.27mm, IPC High Density)
footprint D8_M (SOIC, 8-Leads, Body 4.9x3.9mm, Pitch 1.27mm, IPC Low Density)
pins: 1 GND (power) "Ground", 2 IN (power) "Input voltage", 3 IN (power) "Input voltage", 4 ~{EN} (in) "Enable input. Logic-low turns on power switch.", 5 ~{OC} (oc) "Overcurrent. Logic output, active low", 6 OUT (power) "Power-switch output", 7 OUT (power) "Power-switch output", 8 OUT (power) "Power-switch output"

## TPS2021DRG4
designator U?
0.66 A, 2.7 to 5.5 V Single Power Distribution Switch IC Hi-Side MOSFET, Fault Report, 33 mOhms rDS(On), -40 to 85 degC, 8-pin SOIC (D), Green (RoHS & no Sb/Br); Manufacturer: Texas Instruments; PartNumber: TPS2021DRG4; Continuous Current(Max)(A): 0.6; Current Limit(A): 0.9; Enable: Active Low; Number of Switches: 1; Rating: Catalog; rDS(on) per FET(Typ)(mOhms): 33; Vin(Max)(V): 5.5; Vin(Min)(V): 2.7; DatasheetVersion: SLVS175C; PackageVersion: revM, Jun-2011; PackageReference: D8; PackageDescription: 8-Pin Plastic Small Outline Integrated Circuit, 4.9 x 3.9 mm, Pitch 1.27 mm Pitch; Supplier 1: Digi-Key; Supplier Part Number 1: TPS2021DRG4-ND; Supplier 2: Newark; Supplier Part Number 2: 54K1529; Supplier 3: Mouser; Supplier Part Number 3: 595-TPS2021DRG4; Eco-Plan: Green (RoHS & no Sb/Br); Mounting Technology: Surface Mount; Code_JEDEC: MS-012AA; ComponentLink1Description: Datasheet; ComponentLink1URL: http://www.ti.com/general/docs/lit/getliterature.tsp?genericPartNumber=TPS2021&fileType=pdf
footprint D8_N (SOIC, 8-Leads, Body 4.9x3.9mm, Pitch 1.27mm, IPC Medium Density)
footprint D8_L (SOIC, 8-Leads, Body 4.9x3.9mm, Pitch 1.27mm, IPC High Density)
footprint D8_M (SOIC, 8-Leads, Body 4.9x3.9mm, Pitch 1.27mm, IPC Low Density)
pins: 1 GND (power) "Ground", 2 IN (power) "Input voltage", 3 IN (power) "Input voltage", 4 ~{EN} (in) "Enable input. Logic-low turns on power switch.", 5 ~{OC} (oc) "Overcurrent. Logic output, active low", 6 OUT (power) "Power-switch output", 7 OUT (power) "Power-switch output", 8 OUT (power) "Power-switch output"

## TPS2021IDRQ1
designator U?
Automotive Catalog Power-Distribution Switch, 0.9 A Current Limit, -40 to 85 degC, 8-pin SOIC (D), Green (RoHS & no Sb/Br); Manufacturer: Texas Instruments; PartNumber: TPS2021IDRQ1; Continuous Current(Max)(A): 0.6; Current Limit(A): 0.9; Enable: Active Low; Number of Switches: 1; rDS(on) per FET(Typ)(mOhms): 33; Vin(Max)(V): 5.5; Vin(Min)(V): 2.7; DatasheetVersion: SGLS260G; PackageVersion: revM, Jun-2011; PackageReference: D8; PackageDescription: 8-Pin Plastic Small Outline Integrated Circuit, 4.9 x 3.9 mm, Pitch 1.27 mm Pitch; Supplier 1: Digi-Key; Supplier Part Number 1: 296-23678-2-ND; Supplier 2: Digi-Key; Supplier Part Number 2: 296-23678-1-ND; Supplier 3: Digi-Key; Supplier Part Number 3: 296-23678-6-ND; Supplier 4: Mouser; Supplier Part Number 4: 595-TPS2021IDRQ1; Eco-Plan: Green (RoHS & no Sb/Br); Rating: Automotive; Mounting Technology: Surface Mount; Code_JEDEC: MS-012AA; ComponentLink1Description: Datasheet; ComponentLink1URL: http://www.ti.com/general/docs/lit/getliterature.tsp?genericPartNumber=TPS2021-Q1&fileType=pdf
footprint D8_N (SOIC, 8-Leads, Body 4.9x3.9mm, Pitch 1.27mm, IPC Medium Density)
footprint D8_L (SOIC, 8-Leads, Body 4.9x3.9mm, Pitch 1.27mm, IPC High Density)
footprint D8_M (SOIC, 8-Leads, Body 4.9x3.9mm, Pitch 1.27mm, IPC Low Density)
pins: 1 GND (power) "Ground", 2 IN (power) "Input voltage", 3 IN (power) "Input voltage", 4 ~{EN} (in) "Enable input. Logic-low turns on power switch", 5 ~{OC} (oc) "Overcurrent. Logic output, active-low", 6 OUT (power) "Power-switch output", 7 OUT (power) "Power-switch output", 8 OUT (power) "Power-switch output"

## TPS2021P
designator U?
0.66 A, 2.7 to 5.5 V Single Power Distribution Switch IC Hi-Side MOSFET, Fault Report, 33 mOhms rDS(ON), -40 to 85 degC, 8-pin PDIP (P), Pb-Free (RoHS); Manufacturer: Texas Instruments; PartNumber: TPS2021P; Continuous Current(Max)(A): 0.6; Current Limit(A): 0.9; Enable: Active Low; Number of Switches: 1; Rating: Catalog; rDS(on) per FET(Typ)(mOhms): 33; Vin(Max)(V): 5.5; Vin(Min)(V): 2.7; DatasheetVersion: SLVS175C; PackageVersion: revE, Apr-2010; PackageReference: P8; PackageDescription: 8-Pin Plastic Dual-In-Line Package, Row Spacing 7.62 mm, Pitch 2.54 mm; Supplier 1: Digi-Key; Supplier Part Number 1: 296-34582-5-ND; Supplier 2: Newark; Supplier Part Number 2: 20M5859; Supplier 3: Mouser; Supplier Part Number 3: 595-TPS2021P; Eco-Plan: Pb-Free (RoHS); Mounting Technology: Through Hole; Code_JEDEC: MS-001-BA; ComponentLink1Description: Datasheet; ComponentLink1URL: http://www.ti.com/general/docs/lit/getliterature.tsp?genericPartNumber=TPS2021&fileType=pdf
footprint P8 (DIP, 8-Leads, Row Spacing 7.62mm, Pitch 2.54mm, Body 9.6x6.4mm)
pins: 1 GND (power) "Ground", 2 IN (power) "Input voltage", 3 IN (power) "Input voltage", 4 ~{EN} (in) "Enable input. Logic-low turns on power switch.", 5 ~{OC} (oc) "Overcurrent. Logic output, active-low", 6 OUT (power) "Power-switch output", 7 OUT (power) "Power-switch output", 8 OUT (power) "Power-switch output"

## TPS2021PE4
designator U?
0.66 A, 2.7 to 5.5 V Single Power Distribution Switch IC Hi-Side MOSFET, Fault Report, 33 mOhms rDS(On), -40 to 85 degC, 8-pin PDIP (P), Pb-Free (RoHS); Manufacturer: Texas Instruments; PartNumber: TPS2021PE4; Continuous Current(Max)(A): 0.6; Current Limit(A): 0.9; Enable: Active Low; Number of Switches: 1; Rating: Catalog; rDS(on) per FET(Typ)(mOhms): 33; Vin(Max)(V): 5.5; Vin(Min)(V): 2.7; DatasheetVersion: SLVS175C; PackageVersion: revE, Apr-2010; PackageReference: P8; PackageDescription: 8-Pin Plastic Dual-In-Line Package, Row Spacing 7.62 mm, Pitch 2.54 mm; Supplier 1: Digi-Key; Supplier Part Number 1: TPS2021PE4-ND; Supplier 2: Newark; Supplier Part Number 2: 24K5804; Supplier 3: Mouser; Supplier Part Number 3: 595-TPS2021PE4; Eco-Plan: Pb-Free (RoHS); Mounting Technology: Through Hole; Code_JEDEC: MS-001-BA; ComponentLink1Description: Datasheet; ComponentLink1URL: http://www.ti.com/general/docs/lit/getliterature.tsp?genericPartNumber=TPS2021&fileType=pdf
footprint P8 (DIP, 8-Leads, Row Spacing 7.62mm, Pitch 2.54mm, Body 9.6x6.4mm)
pins: 1 GND (power) "Ground", 2 IN (power) "Input voltage", 3 IN (power) "Input voltage", 4 ~{EN} (in) "Enable input. Logic-low turns on power switch.", 5 ~{OC} (oc) "Overcurrent. Logic output, active-low", 6 OUT (power) "Power-switch output", 7 OUT (power) "Power-switch output", 8 OUT (power) "Power-switch output"

## TPS2022D
designator U?
1.1 A, 2.7 to 5.5 V Single Power Distribution Switch IC Hi-Side MOSFET, Fault Report, 33 mOhms rDS(On), -40 to 85 degC, 8-pin SOIC (D), Green (RoHS & no Sb/Br); Manufacturer: Texas Instruments; PartNumber: TPS2022D; Continuous Current(Max)(A): 1; Current Limit(A): 1.5; Enable: Active Low; Rating: Catalog; rDS(on) per FET(Typ)(mOhms): 33; Vin(Max)(V): 5.5; Vin(Min)(V): 2.7; DatasheetVersion: SLVS175C; PackageVersion: revM, Jun-2011; PackageReference: D8; PackageDescription: 8-Pin Plastic Small Outline Integrated Circuit, 4.9 x 3.9 mm, Pitch 1.27 mm Pitch; Supplier 1: Digi-Key; Supplier Part Number 1: 296-2562-5-ND; Supplier 2: Farnell; Supplier Part Number 2: 8456704; Supplier 3: Newark; Supplier Part Number 3: 96B3629; Supplier 4: Mouser; Supplier Part Number 4: 595-TPS2022D; Eco-Plan: Green (RoHS & no Sb/Br); Number of Switches: 1; Mounting Technology: Surface Mount; Code_JEDEC: MS-012AA; ComponentLink1Description: Datasheet; ComponentLink1URL: http://www.ti.com/general/docs/lit/getliterature.tsp?genericPartNumber=TPS2022&fileType=pdf
footprint D8_N (SOIC, 8-Leads, Body 4.9x3.9mm, Pitch 1.27mm, IPC Medium Density)
footprint D8_L (SOIC, 8-Leads, Body 4.9x3.9mm, Pitch 1.27mm, IPC High Density)
footprint D8_M (SOIC, 8-Leads, Body 4.9x3.9mm, Pitch 1.27mm, IPC Low Density)
pins: 1 GND (power) "Ground", 2 IN (power) "Input voltage", 3 IN (power) "Input voltage", 4 ~{EN} (in) "Enable input. Logic-low turns on power switch.", 5 ~{OC} (oc) "Overcurrent. Logic output, active-low", 6 OUT (power) "Power-switch output", 7 OUT (power) "Power-switch output", 8 OUT (power) "Power-switch output"

## TPS2022DG4
designator U?
1.1 A, 2.7 to 5.5 V Single Power Distribution Switch IC Hi-Side MOSFET, Fault Report, 33 mOhms rDS(On), -40 to 85 degC, 8-pin SOIC (D), Green (RoHS & no Sb/Br); Manufacturer: Texas Instruments; PartNumber: TPS2022DG4; Continuous Current(Max)(A): 1; Current Limit(A): 1.5; Enable: Active Low; Rating: Catalog; rDS(on) per FET(Typ)(mOhms): 33; Vin(Max)(V): 5.5; Vin(Min)(V): 2.7; DatasheetVersion: SLVS175C; PackageVersion: revM, Jun-2011; PackageReference: D8; PackageDescription: 8-Pin Plastic Small Outline Integrated Circuit, 4.9 x 3.9 mm, Pitch 1.27 mm Pitch; Supplier 1: Digi-Key; Supplier Part Number 1: TPS2022DG4-ND; Supplier 2: Newark; Supplier Part Number 2: 54K1530; Supplier 3: Mouser; Supplier Part Number 3: 595-TPS2022DG4; Eco-Plan: Green (RoHS & no Sb/Br); Number of Switches: 1; Mounting Technology: Surface Mount; Code_JEDEC: MS-012AA; ComponentLink1Description: Datasheet; ComponentLink1URL: http://www.ti.com/general/docs/lit/getliterature.tsp?genericPartNumber=TPS2022&fileType=pdf
footprint D8_N (SOIC, 8-Leads, Body 4.9x3.9mm, Pitch 1.27mm, IPC Medium Density)
footprint D8_L (SOIC, 8-Leads, Body 4.9x3.9mm, Pitch 1.27mm, IPC High Density)
footprint D8_M (SOIC, 8-Leads, Body 4.9x3.9mm, Pitch 1.27mm, IPC Low Density)
pins: 1 GND (power) "Ground", 2 IN (power) "Input voltage", 3 IN (power) "Input voltage", 4 ~{EN} (in) "Enable input. Logic-low turns on power switch.", 5 ~{OC} (oc) "Overcurrent. Logic output, active-low", 6 OUT (power) "Power-switch output", 7 OUT (power) "Power-switch output", 8 OUT (power) "Power-switch output"

## TPS2022DR
designator U?
1.1 A, 2.7 to 5.5 V Single Power Distribution Switch IC Hi-Side MOSFET, Fault Report, 33 mOhms rDS(On), -40 to 85 degC, 8-pin SOIC (D), Green (RoHS & no Sb/Br); Manufacturer: Texas Instruments; PartNumber: TPS2022DR; Continuous Current(Max)(A): 1; Current Limit(A): 1.5; Enable: Active Low; Rating: Catalog; rDS(on) per FET(Typ)(mOhms): 33; Vin(Max)(V): 5.5; Vin(Min)(V): 2.7; DatasheetVersion: SLVS175C; PackageVersion: revM, Jun-2011; PackageReference: D8; PackageDescription: 8-Pin Plastic Small Outline Integrated Circuit, 4.9 x 3.9 mm, Pitch 1.27 mm Pitch; Supplier 1: Digi-Key; Supplier Part Number 1: TPS2022DR-ND; Supplier 2: Newark; Supplier Part Number 2: 76C9961; Supplier 3: Mouser; Supplier Part Number 3: 595-TPS2022DR; Eco-Plan: Green (RoHS & no Sb/Br); Number of Switches: 1; Mounting Technology: Surface Mount; Code_JEDEC: MS-012AA; ComponentLink1Description: Datasheet; ComponentLink1URL: http://www.ti.com/general/docs/lit/getliterature.tsp?genericPartNumber=TPS2022&fileType=pdf
footprint D8_N (SOIC, 8-Leads, Body 4.9x3.9mm, Pitch 1.27mm, IPC Medium Density)
footprint D8_L (SOIC, 8-Leads, Body 4.9x3.9mm, Pitch 1.27mm, IPC High Density)
footprint D8_M (SOIC, 8-Leads, Body 4.9x3.9mm, Pitch 1.27mm, IPC Low Density)
pins: 1 GND (power) "Ground", 2 IN (power) "Input voltage", 3 IN (power) "Input voltage", 4 ~{EN} (in) "Enable input. Logic-low turns on power switch.", 5 ~{OC} (oc) "Overcurrent. Logic output, active-low", 6 OUT (power) "Power-switch output", 7 OUT (power) "Power-switch output", 8 OUT (power) "Power-switch output"

## TPS2022DRG4
designator U?
1.1 A, 2.7 to 5.5 V Single Power Distribution Switch IC Hi-Side MOSFET, Fault Report, 33 mOhms rDS(On), -40 to 85 degC, 8-pin SOIC (D), Green (RoHS & no Sb/Br); Manufacturer: Texas Instruments; PartNumber: TPS2022DRG4; Continuous Current(Max)(A): 1; Current Limit(A): 1.5; Enable: Active Low; Rating: Catalog; rDS(on) per FET(Typ)(mOhms): 33; Vin(Max)(V): 5.5; Vin(Min)(V): 2.7; DatasheetVersion: SLVS175C; PackageVersion: revM, Jun-2011; PackageReference: D8; PackageDescription: 8-Pin Plastic Small Outline Integrated Circuit, 4.9 x 3.9 mm, Pitch 1.27 mm Pitch; Supplier 1: Digi-Key; Supplier Part Number 1: TPS2022DRG4-ND; Supplier 2: Newark; Supplier Part Number 2: 54K1531; Supplier 3: Mouser; Supplier Part Number 3: 595-TPS2022DRG4; Eco-Plan: Green (RoHS & no Sb/Br); Number of Switches: 1; Mounting Technology: Surface Mount; Code_JEDEC: MS-012AA; ComponentLink1Description: Datasheet; ComponentLink1URL: http://www.ti.com/general/docs/lit/getliterature.tsp?genericPartNumber=TPS2022&fileType=pdf
footprint D8_N (SOIC, 8-Leads, Body 4.9x3.9mm, Pitch 1.27mm, IPC Medium Density)
footprint D8_L (SOIC, 8-Leads, Body 4.9x3.9mm, Pitch 1.27mm, IPC High Density)
footprint D8_M (SOIC, 8-Leads, Body 4.9x3.9mm, Pitch 1.27mm, IPC Low Density)
pins: 1 GND (power) "Ground", 2 IN (power) "Input voltage", 3 IN (power) "Input voltage", 4 ~{EN} (in) "Enable input. Logic-low turns on power switch.", 5 ~{OC} (oc) "Overcurrent. Logic output, active-low", 6 OUT (power) "Power-switch output", 7 OUT (power) "Power-switch output", 8 OUT (power) "Power-switch output"